# Altium schematic symbol library WCAP-PHSE.SchLib: 4 symbols
Pins are listed as number, name and electrical type; pins without a type are passive.

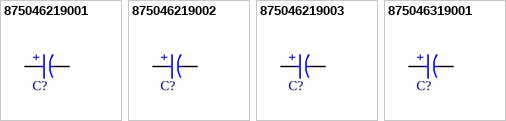
[diagram p0: symbols 875046219001 to 875046319001]

## 875046219001
designator C?, comment 330µF  (value not drawn)
WCAP-PHSE Aluminum Polymer Capacitor, H-Chip, SMT, L7.3 x W4.3 x H1.9mm, 330µF, 2V; Manufacturer Part Number: 875046219001; Manufacturer: Wurth Elektronik; Capacitance Tolerance: +/-20%; Dissipation Factor: 6%; Endurance: 2000h; ESR: 3mΩ; Leakage Current: 66µA; Ripple Current: 10200mA; Technical Reference: PSE2917331M002DH3T2HT19; Category: Aluminum Polymer Capacitors; Match Code: WCAP-PHSE; ComponentLink1Description: Website Link; ComponentLink1URL: https://www.we-online.com/redexpert/article/875046219001?ad; ComponentLink2Description: Datasheet Link; ComponentLink2URL: https://www.we-online.com/redexpert/spec/875046219001?ad; Mount: Surface Mount; Operating Temperature Max: 105°C; Operating Temperature Min: -55°C; Packaging: Tape and Reel; Length: 7.3mm; Width: 4.3mm; Height: 1.9mm; Capacitance: 330µF; Rated Voltage (DC): 2V
footprint WCAP-PHSE_L7.3W4.3H1.9
simulation model 875046219001_330uF
pins: 1 P, 2 N
text: +

## 875046219002
designator C?, comment 470µF  (value not drawn)
WCAP-PHSE Aluminum Polymer Capacitor, H-Chip, SMT, L7.3 x W4.3 x H1.9mm, 470µF, 2V; Manufacturer Part Number: 875046219002; Manufacturer: Wurth Elektronik; Capacitance Tolerance: +/-20%; Dissipation Factor: 6%; Endurance: 2000h; ESR: 3mΩ; Leakage Current: 94µA; Ripple Current: 10200mA; Technical Reference: PSE2917471M002DH3T2HT19; Category: Aluminum Polymer Capacitors; Match Code: WCAP-PHSE; ComponentLink1Description: Website Link; ComponentLink1URL: https://www.we-online.com/redexpert/article/875046219002?ad; ComponentLink2Description: Datasheet Link; ComponentLink2URL: https://www.we-online.com/redexpert/spec/875046219002?ad; Mount: Surface Mount; Operating Temperature Max: 105°C; Operating Temperature Min: -55°C; Packaging: Tape and Reel; Length: 7.3mm; Width: 4.3mm; Height: 1.9mm; Capacitance: 470µF; Rated Voltage (DC): 2V
footprint WCAP-PHSE_L7.3W4.3H1.9
simulation model 875046219002_470uF
pins: 1 P, 2 N
text: +

## 875046219003
designator C?, comment 560µF  (value not drawn)
WCAP-PHSE Aluminum Polymer Capacitor, H-Chip, SMT, L7.3 x W4.3 x H1.9mm, 560µF, 2V; Manufacturer Part Number: 875046219003; Manufacturer: Wurth Elektronik; Capacitance Tolerance: +/-20%; Dissipation Factor: 6%; Endurance: 2000h; ESR: 3mΩ; Leakage Current: 112µA; Ripple Current: 10200mA; Technical Reference: PSE2917561M002DH3T2HT19; Category: Aluminum Polymer Capacitors; Match Code: WCAP-PHSE; ComponentLink1Description: Website Link; ComponentLink1URL: https://www.we-online.com/redexpert/article/875046219003?ad; ComponentLink2Description: Datasheet Link; ComponentLink2URL: https://www.we-online.com/redexpert/spec/875046219003?ad; Mount: Surface Mount; Operating Temperature Max: 105°C; Operating Temperature Min: -55°C; Packaging: Tape and Reel; Length: 7.3mm; Width: 4.3mm; Height: 1.9mm; Capacitance: 560µF; Rated Voltage (DC): 2V
footprint WCAP-PHSE_L7.3W4.3H1.9
simulation model 875046219003_560uF
pins: 1 P, 2 N
text: +

## 875046319001
designator C?, comment 470µF  (value not drawn)
WCAP-PHSE Aluminum Polymer Capacitor, H-Chip, SMT, L7.3 x W4.3 x H1.9mm, 470µF, 2.5V; Manufacturer Part Number: 875046319001; Manufacturer: Wurth Elektronik; Capacitance Tolerance: +/-20%; Dissipation Factor: 6%; Endurance: 2000h; ESR: 3mΩ; Leakage Current: 117.5µA; Ripple Current: 10200mA; Technical Reference: PSE2917471M2R5DH3T2HT19; Category: Aluminum Polymer Capacitors; Match Code: WCAP-PHSE; ComponentLink1Description: Website Link; ComponentLink1URL: https://www.we-online.com/redexpert/article/875046319001?ad; ComponentLink2Description: Datasheet Link; ComponentLink2URL: https://www.we-online.com/redexpert/spec/875046319001?ad; Mount: Surface Mount; Operating Temperature Max: 105°C; Operating Temperature Min: -55°C; Packaging: Tape and Reel; Length: 7.3mm; Width: 4.3mm; Height: 1.9mm; Capacitance: 470µF; Rated Voltage (DC): 2.5V
footprint WCAP-PHSE_L7.3W4.3H1.9
simulation model 875046319001_470uF
pins: 1 P, 2 N
text: +